# Altium schematic symbol library SWARMUS_LIB.SchLib: 70 symbols (part 2 of 2)
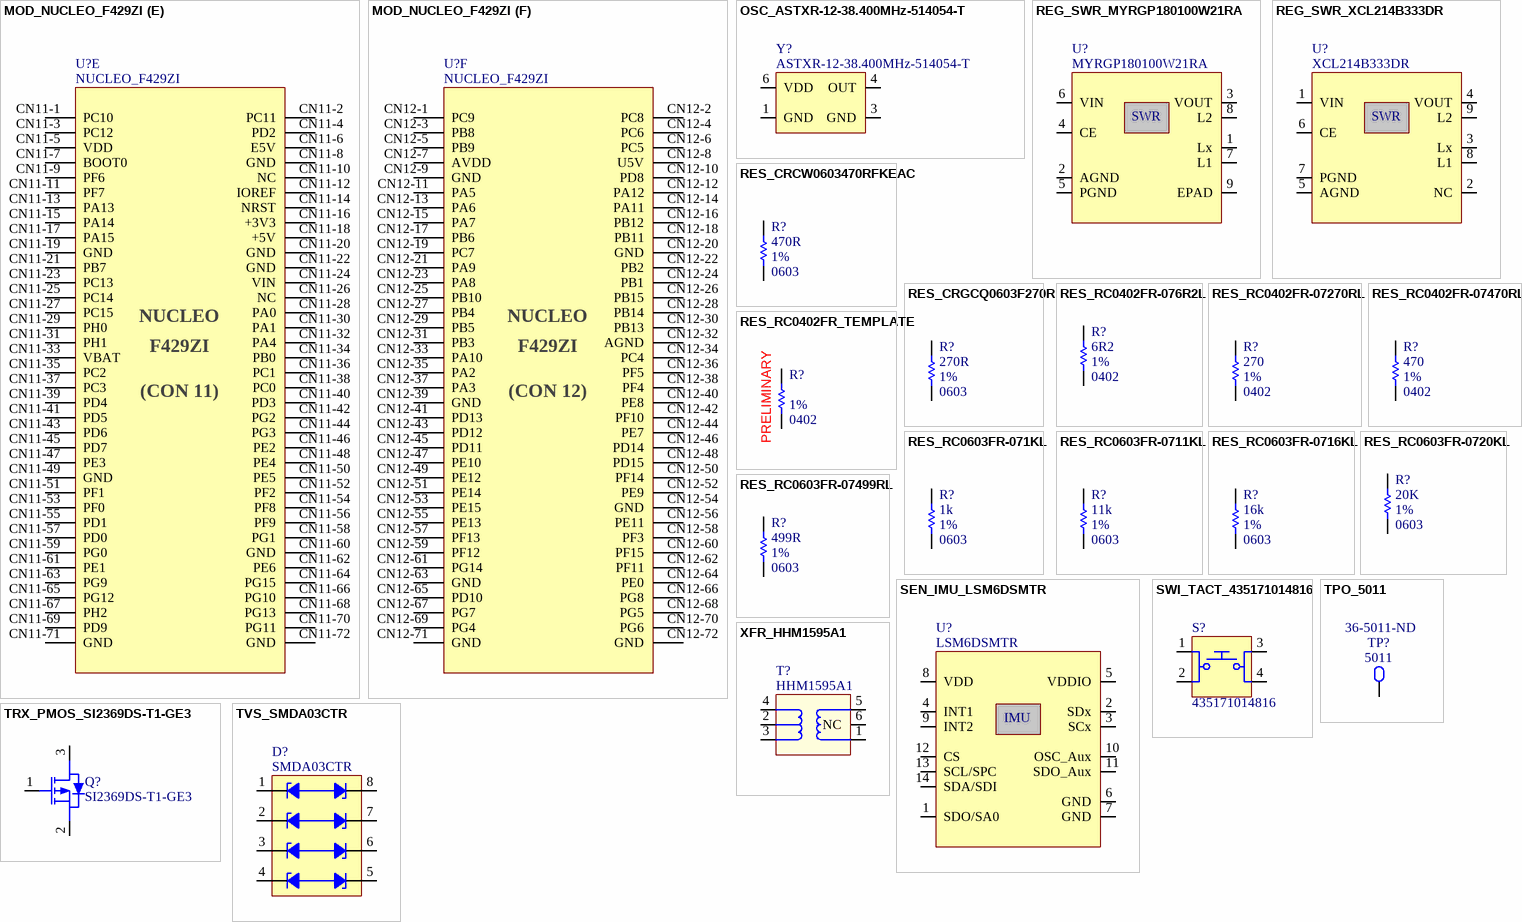
[diagram p3: symbols MOD_NUCLEO_F429ZI to XFR_HHM1595A1]

## RES_RC0402FR_TEMPLATE
designator R?, comment Tolerance: 1%  Package: 0402  (hidden comment: RC0402FR- XXXXX)
RES - XXXX 1% 1/16W - 0402; Manufacturer #1: Yageo; GRAMS Lib Spec: 2.8c; Magnetic Material: Unknown; Polarized: No; Voltage Rating: 50V; Assembly Type: SMD; CreatedBy/Date: Louis-Daniel Gaulin; Current Rating: *; Manufacturer #2: *; Note: *; Part Number #2: *; Power Max: 1/16W; Temperature: -55°C ~ 155°C; Supplier 1: Digi-Key
footprint RES_0402 (Resistor - 0402)
pins: 1, 2
text: PRELIMINARY

## RES_RC0603FR-071KL
designator R?, comment value 1k  Tolerance: 1%  Package: 0603  (hidden comment: RC0603FR-071KL)
RES - 1k 1% 1/10W - 0603; Manufacturer #1: Yageo; GRAMS Lib Spec: 2.8; Magnetic Material: Unknown; Polarized: No; Voltage Rating: 75V; Assembly Type: SMD; CreatedBy/Date: Hubert Dube / 22-07-21; Current Rating: *; HelpURL: https://www.yageo.com/upload/media/product/productsearch/datasheet/rchip/PYu-RC_Group_51_RoHS_L_11.pdf; Manufacturer #2: *; Note: *; Part Number #1: RC0603FR-071KL; Part Number #2: *; Power Max: 1/10W; Temperature: -55°C ~ 155°C; VerifiedBy: Louis-Daniel Gaulin / 2020-07-23; Supplier 1: Digi-Key; Supplier Part Number 1: 311-1.00KHRCT-ND
footprint RES_0603 (Resistor - 0603)
pins: 1, 2

## RES_RC0603FR-0711KL
designator R?, comment value 11k  Tolerance: 1%  Package: 0603  (hidden comment: RC0603FR-0711KL)
RES - 11k 1% 1/10W - 0603; Manufacturer #1: Yageo; GRAMS Lib Spec: 2.8; Magnetic Material: Unknown; Polarized: No; Voltage Rating: 75V; Assembly Type: SMD; CreatedBy/Date: Philippe Arsenault/2020-07-14; Current Rating: *; HelpURL: https://www.yageo.com/upload/media/product/productsearch/datasheet/rchip/PYu-RC_Group_51_RoHS_L_10.pdf; Manufacturer #2: *; Note: *; Part Number #1: RC0603FR-0711KL; Part Number #2: *; Power Max: 1/10W; Temperature: -55°C ~ 155°C; VerifiedBy: Louis-Daniel Gaulin / 2020-07-22; Supplier 1: Digi-Key; Supplier Part Number 1: 311-11.0KHRCT-ND
footprint RES_0603 (Resistor - 0603)
pins: 1, 2

## RES_RC0603FR-0716KL
designator R?, comment value 16k  Tolerance: 1%  Package: 0603  (hidden comment: RC0603FR-0716KL)
RES - 16k 1% 1/10W - 0603; Manufacturer #1: Yageo; GRAMS Lib Spec: 2.8; Magnetic Material: Unknown; Polarized: No; Voltage Rating: 75V; Assembly Type: SMD; CreatedBy/Date: Philippe Arsenault/2020-07-22; Current Rating: *; HelpURL: https://www.yageo.com/upload/media/product/productsearch/datasheet/rchip/PYu-RC_Group_51_RoHS_L_10.pdf; Manufacturer #2: *; Note: *; Part Number #1: RC0603FR-0716KL; Part Number #2: *; Power Max: 1/10W; Temperature: -55°C ~ 155°C; VerifiedBy: Louis-Daniel Gaulin / 2020-07-23; Supplier 1: Digi-Key; Supplier Part Number 1: 311-16.0KHRCT-ND
footprint RES_0603 (Resistor - 0603)
pins: 1, 2

## RES_RC0603FR-0720KL
designator R?, comment value 20K  Tolerance: 1%  Package: 0603  (hidden comment: RC0603FR-0720KL)
RES - 20K 1% 1/10W - 0603; Manufacturer #1: Yageo; GRAMS Lib Spec: 2.8; Magnetic Material: Unknown; Polarized: No; Voltage Rating: 75V; Assembly Type: SMD; CreatedBy/Date: Hubert Dube / 20-07-20; Current Rating: *; HelpURL: https://www.yageo.com/upload/media/product/productsearch/datasheet/rchip/PYu-RC_Group_51_RoHS_L_11.pdf; Manufacturer #2: *; Note: *; Part Number #1: RC0603FR-0720KL; Part Number #2: *; Power Max: 1/10W; Temperature: -55°C ~ 155°C; VerifiedBy: Louis-Daniel Gaulin - 21/07/20; Supplier 1: Digi-Key; Supplier Part Number 1: 311-20.0KHRCT-ND
footprint RES_0603 (Resistor - 0603)
pins: 1, 2

## RES_RC0603FR-07499RL
designator R?, comment value 499R  Tolerance: 1%  Package: 0603  (hidden comment: RC0603FR-07499RL)
RES - 499R 1% 1/10W - 0603; Manufacturer #1: Yageo; GRAMS Lib Spec: 2.8; Magnetic Material: Unknown; Polarized: No; Voltage Rating: 75V; Assembly Type: SMD; CreatedBy/Date: Hubert Dube / 20-07-20; Current Rating: *; HelpURL: https://www.yageo.com/upload/media/product/productsearch/datasheet/rchip/PYu-RC_Group_51_RoHS_L_11.pdf; Manufacturer #2: *; Note: *; Part Number #1: RC0603FR-07499RL; Part Number #2: *; Power Max: 1/10W; Temperature: -55°C ~ 155°C; VerifiedBy: Louis-Daniel Gaulin - 21/07/20; Supplier 1: Digi-Key; Supplier Part Number 1: 311-499HRCT-ND
footprint RES_0603 (Resistor - 0603)
pins: 1, 2

## SEN_IMU_LSM6DSMTR
designator U?, comment LSM6DSMTR
SEN_IMU -  ACCEL/GYRO 6 Axis I2C/SPI - 14-VFLGA; Manufacturer #1: STMicroelectronics; Voltage Rating: 1.71V ~ 3.6V; Current Rating: 0.65mA; Power Max: 3mW; GRAMS Lib Spec: 2.7c; Magnetic Material: Unknown; Polarized: YES; Value: -; Tolerance: -; HelpURL: https://www.st.com/content/ccc/resource/technical/document/datasheet/76/27/cf/88/c5/03/42/6b/DM00218116.pdf/files/DM00218116.pdf/jcr:content/translations/en.DM00218116.pdf; CreatedBy/Date: Louis-Daniel Gaulin / 06-10-2020; VerifiedBy: Philippe Arsenault/2020-11-06; Temperature: -40°C ~ 85°C (TA); Package: 14-VFLGA; Manufacturer #2: -; Note: -; Assembly Type: SMD; Part Number #2: -; Part Number #1: LSM6DSMTR; Supplier 1: Digi-Key; Supplier Part Number 1: 497-16696-1-ND
footprint SEN_IMU_LSM6DSMTR
pins: 1 SDO/SA0, 2 SDx, 3 SCx, 4 INT1, 5 VDDIO, 6 GND, 7 GND, 8 VDD, 9 INT2, 10 OSC_Aux, 11 SDO_Aux, 12 CS, 13 SCL/SPC, 14 SDA/SDI
text: IMU

## SWI_TACT_435171014816
designator S?, comment 435171014816
SWI - SWITCH TACTILE SPST-NO 0.05A 12V -SMD; Manufacturer #1: Würth Elektronik; Current Rating: 50mA; Voltage rating: 12VDC; Polarized: No; Magnetic Material: UNKNOWN; GRAMS Lib Spec: 2.8; Manufacturer #2: *; Power Max: *; Value: SPST-NO; Part Number #1: 435171014816; Part Number #2: *; HelpURL: https://www.we-online.com/catalog/datasheet/435171014816.pdf; Supplier 1: Digi-Key; Supplier Part Number 1: 732-435171014816CT-ND; Assembly Type: SMD; Temperature: -40°C ~ 85°C; Package: SMD; CreatedBy/Date: Hubert Dube - 22/07/20; Tolerance: *; VerifiedBy: Louis-Daniel Gaulin / 12-11-2020; Cryo: UNKNOWN
footprint SWI_TACT_435171014816
pins: 1, 2, 3, 4

## TPO_5011
designator TP?, comment 5011  Supplier Part Number 1: 36-5011-ND
TPO - TEST POINT - TH; Manufacturer #1: Keystone Electronics; Polarized: No; Magnetic Material: UNKNOWN; GRAMS Lib Spec: 2.8; Current Rating: *; Manufacturer #2: *; Note: *; Power Max: *; Value: *; Part Number #1: 5011; Part Number #2: *; HelpURL: https://www.keyelco.com/userAssets/file/M65p56.pdf; Assembly Type: TH; Package: *; CreatedBy/Date: Louis-Daniel Gauli / 02-11-2020; Temperature: *; Tolerance: *; VerifiedBy: Philippe Arsenault/2020-11-06; Voltage Rating: *; Cryo: UNKNOWN; Supplier 1: Digi-Key
footprint TPO_5011
pins: 1

## TRX_PMOS_SI2369DS-T1-GE3
designator Q?, comment SI2369DS-T1-GE3
TRX - PMOS 30V 7.6A - SOT−23; Manufacturer #1: Vishay Siliconix; GRAMS Lib Spec: 2.8; Magnetic Material: Unknown; Polarized: Yes; Power Max: 1.25W; Assembly Type: SMD; CreatedBy/Date: Louis-Daniel Gaulin / 30-07-2020; Current Rating: 7.6A; HelpURL: https://www.vishay.com/docs/62865/si2369d.pdf; Manufacturer #2: *; Package: SOT-23; Part Number #1: SI2369DS-T1-GE3; Part Number #2: *; Supplier 1: Digi-Key; Supplier Part Number 1: SI2369DS-T1-GE3CT-ND; Temperature: -55°C ~ 150°C; Tolerance: *; Value: *; VerifiedBy: Philippe Arsenault/2020-11-06; Voltage Rating: 30V; Cryo: UNKNOWN
footprint TRX_PMOS_SI2369DS-T1-GE3
pins: 1 G, 2 S, 3 D

## TVS_SMDA03CTR
designator D?, comment SMDA03CTR
TVS - TVS DIODE 3.3V 7V - 8-SOIC; Manufacturer #1: SMC Diode Solutions; Power Max: 300W (Peak); Value: 4 bidirectionnal channels; Voltage rating: 3V3; Polarized: YES; Magnetic Material: UNKNOWN; GRAMS Lib Spec: 2.8; Current Rating: *; Manufacturer #2: *; Part Number #1: SMDA03CTR; Part Number #2: *; HelpURL: http://www.smc-diodes.com/propdf/SMDA03C%20THRU%20SMDA24C%20N0297%20REV.B.pdf; Note: *; Assembly Type: SMD; Temperature: -55°C ~ 125°C; Package: 8-SOIC; CreatedBy/Date: Hubert Dube - 3/10/20; Tolerance: *; VerifiedBy: Louis-Daniel Gaulin; Cryo: UNKNOWN; Supplier 1: Digi-Key; Supplier Part Number 1: 1655-1699-1-ND
footprint TVS_SMDA03CTR (TVS - TVS DIODE 3.3V 7V - 8-SOIC)
pins: 1, 2, 3, 4, 5, 6, 7, 8

## XFR_HHM1595A1
designator T?, comment HHM1595A1
XFR - Imp Unbalaced/Balanced 50/100 3-8GHz  -SMD; Manufacturer #1: TDK; Value: 3GHz  ~ 8GHz; GRAMS Lib Spec: 2.8; Magnetic Material: Unknown; Polarized: Yes; Tolerance: *; Voltage Rating: *; Current Rating: *; Power Max: *; HelpURL: https://product.tdk.com/info/en/documents/data_sheet/rf_balun_hhm1595a1_en.pdf; CreatedBy/Date: Philippe Arsenault/2020-21-07; VerifiedBy: Louis-Daniel Gaulin / 03-10-2020; Temperature: -40°C ~ 85°C; Package: 0805; Manufacturer #2: *; Note: *; Assembly Type: MT; Part Number #2: *; Part Number #1: HHM1595A1; Supplier 1: Digi-Key; Supplier Part Number 1: 445-3387-1-ND
footprint XFR_HHM1595A1 (HHM1595A1)
pins: 1, 2 GND, 3, 4, 5, 6 NC